# Altium footprint library TO-263.PcbLib: 1 footprints
Each footprint in its own frame and in the unit in brackets; x right, y up, seen from the top. Pads: shape width x height; smd on the part's side, far side on the other; paste and mask are expansions set on the pad; w line width, h text height; cw(c..) or ccw(c..) is an arc to the next point about the centre after c.
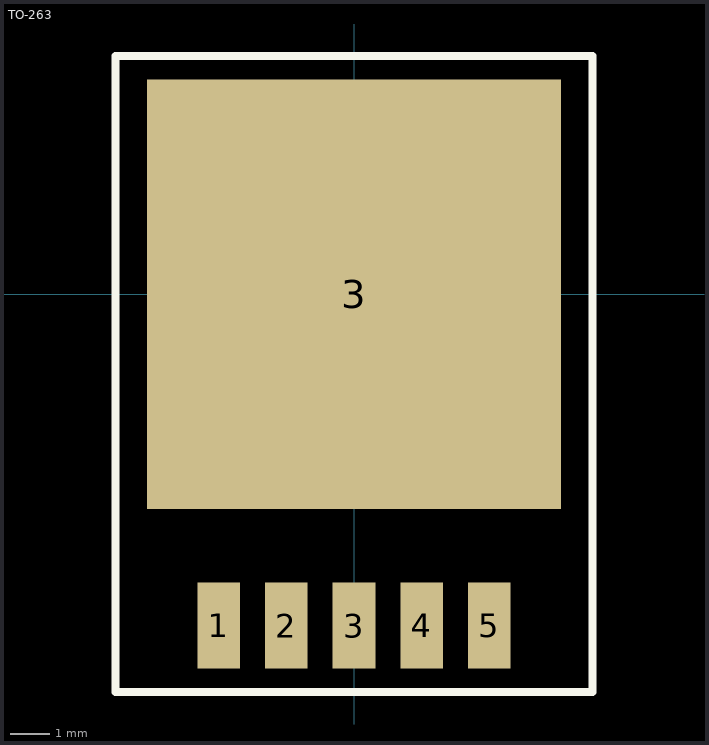
[diagram p0: the footprint, top view; thin cyan lines are the x and y axes]

## TO-263 [mm]
pads (6):
  rect 1.07x2.16 smd: 1(-3.4,-8.325) 2(-1.7,-8.325) 3(0,-8.325) 4(1.7,-8.325) 5(3.4,-8.325)
  rect 10.41x10.8 smd: 3(0,0)
Top Overlay:
  lines w0.2: -6,-10 6,-10 6,6 -6,6 -6,-10